# Altium schematic symbol library Capacitor_100nf_0805.SchLib: 1 symbol
Pins are listed as number, name and electrical type; pins without a type are passive.

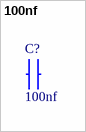
[diagram p0: symbol 100nf]

## 100nf
designator C?
0805 X7R ceramic capacitor, 25V 0.1uF AVX 0805 Standard 100nF Ceramic Multilayer Capacitor, 25 V dc X7R Dielectric  /-10% SMD; Manufacturer_Part_Number: 08053C104KAT2A; Allied_Number: 70002086; Supplier_Name: RS; RS Part Number: 0390990; Manufacturer_Name: AVX; Datasheet Link: http://datasheets.avx.com/X7RDielectric.pdf; Height: 0.94mm; 3D Package: *; Other Part Number: *
footprint CAPC2012X94N